# Altium integrated library Capacitors - Ceramic - 0402.IntLib: 4569 symbols (part 93 of 100)
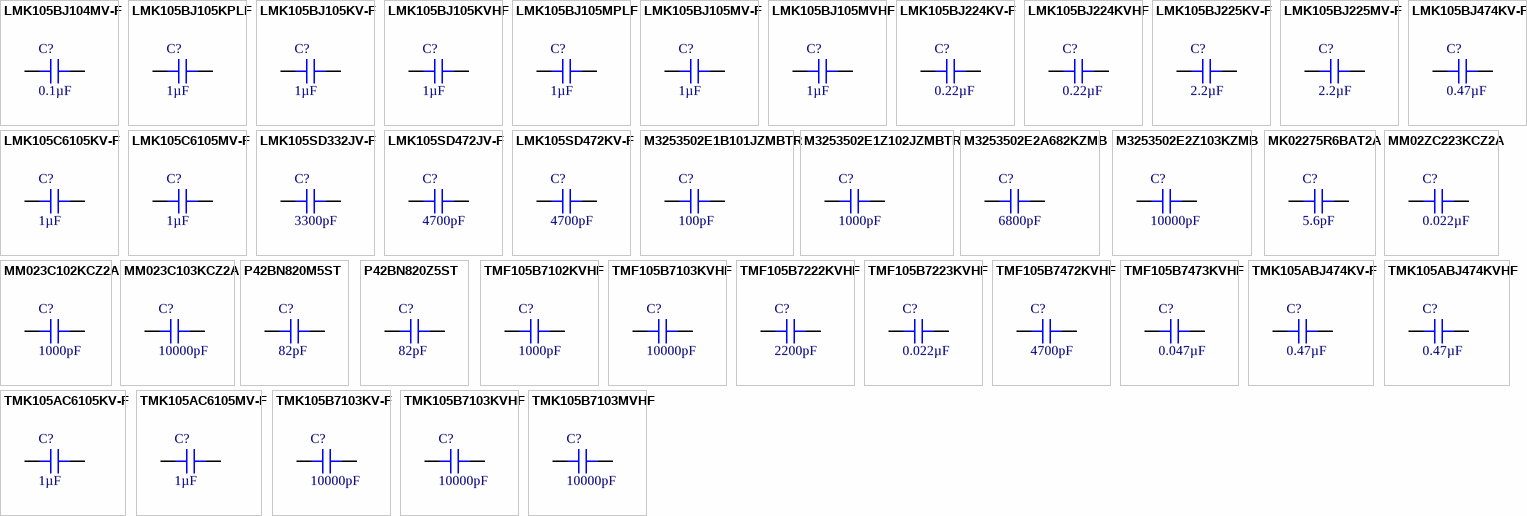
[diagram p206: symbols LMK105BJ104MV-F to TMK105B7103MVHF]

## LMK105BJ224KVHF
designator C?, comment 0.22µF
CAP CER 0.22UF 10V X5R 0402; Part Number: LMK105BJ224KVHF; Manufacturer: Taiyo Yuden; Tolerance: ±10%; Value: 0.22µF; Applications: Automotive; Capacitance: 0.22µF; ComponentLink1Description: Datasheet; ComponentLink1URL: https://www.yuden.co.jp/productdata/catalog/mlcc_all_hq_e.pdf; ComponentLink2Description: DigiKey Link; ComponentLink2URL: http://digikey.com/product-detail/en/taiyo-yuden/LMK105BJ224KVHF/587-3771-1-ND/4811241; Device Package: 0402 (1005 Metric); LastUpdated: 9/2/2020 1:02:11 AM; Lifecycle Status: Active; Minimum Order: 1; Mounting Type: Surface Mount, MLCC; Operating Temperature: -55°C ~ 85°C; Package / Case: 0402 (1005 Metric); Packaging: TapeAndReel; PartId: 7890; Part Status: Active; Price: 0.02; Ratings: AEC-Q200; Series: M; Size / Dimension: 0.039" L x 0.020" W (1.00mm x 0.50mm); Supplier 1: DigiKey; Supplier Part Number 1: 587-3771-1-ND; Temperature Coefficient: X5R; Thickness (Max): 0.022" (0.55mm); Voltage - Rated: 10V
footprint CAP 0402_1005
pins: 1, 2

## LMK105BJ225KV-F
designator C?, comment 2.2µF
CAP CER 2.2UF 10V X5R 0402; Part Number: LMK105BJ225KV-F; Manufacturer: Taiyo Yuden; Tolerance: ±10%; Value: 2.2µF; Applications: SMPS Filtering; Capacitance: 2.2µF; ComponentLink1Description: Datasheet; ComponentLink1URL: https://ds.yuden.co.jp/TYCOMPAS/ut/detail?pn=LMK105BJ225KV-F &u=M; ComponentLink2Description: DigiKey Link; ComponentLink2URL: http://digikey.com/product-detail/en/taiyo-yuden/LMK105BJ225KV-F/587-6016-1-ND/8040679; Device Package: 0402 (1005 Metric); LastUpdated: 9/2/2020 1:02:22 AM; Lifecycle Status: Active; Minimum Order: 1; Mounting Type: Surface Mount, MLCC; Operating Temperature: -55°C ~ 85°C; Package / Case: 0402 (1005 Metric); Packaging: TapeAndReel; PartId: 2706; Part Status: Active; Price: 0.01; Series: M; Size / Dimension: 0.039" L x 0.020" W (1.00mm x 0.50mm); Supplier 1: DigiKey; Supplier Part Number 1: 587-6016-1-ND; Temperature Coefficient: X5R; Thickness (Max): 0.026" (0.65mm); Voltage - Rated: 10V
footprint CAP 0402_1005
pins: 1, 2

## LMK105BJ225MV-F
designator C?, comment 2.2µF
CAP CER 2.2UF 10V X5R 0402; Part Number: LMK105BJ225MV-F; Manufacturer: Taiyo Yuden; Tolerance: ±20%; Value: 2.2µF; Applications: General Purpose; Capacitance: 2.2µF; ComponentLink1Description: Datasheet; ComponentLink1URL: https://www.yuden.co.jp/productdata/catalog/mlcc01_e.pdf; ComponentLink2Description: DigiKey Link; ComponentLink2URL: http://digikey.com/product-detail/en/taiyo-yuden/LMK105BJ225MV-F/587-3153-1-ND/2774767; Device Package: 0402 (1005 Metric); LastUpdated: 9/2/2020 1:02:21 AM; Lifecycle Status: Active; Minimum Order: 1; Mounting Type: Surface Mount, MLCC; Operating Temperature: -55°C ~ 85°C; Package / Case: 0402 (1005 Metric); Packaging: TapeAndReel; PartId: 3142; Part Status: Active; Price: 0.01; Series: M; Size / Dimension: 0.039" L x 0.020" W (1.00mm x 0.50mm); Supplier 1: DigiKey; Supplier Part Number 1: 587-3153-1-ND; Temperature Coefficient: X5R; Thickness (Max): 0.022" (0.55mm); Voltage - Rated: 10V
footprint CAP 0402_1005
pins: 1, 2

## LMK105BJ474KV-F
designator C?, comment 0.47µF
CAP CER 0.47UF 10V X5R 0402; Part Number: LMK105BJ474KV-F; Manufacturer: Taiyo Yuden; Tolerance: ±10%; Value: 0.47µF; Applications: General Purpose; Capacitance: 0.47µF; ComponentLink1Description: Datasheet; ComponentLink1URL: https://www.yuden.co.jp/productdata/catalog/mlcc01_e.pdf; ComponentLink2Description: DigiKey Link; ComponentLink2URL: http://digikey.com/product-detail/en/taiyo-yuden/LMK105BJ474KV-F/587-1455-1-ND/1004086; Device Package: 0402 (1005 Metric); LastUpdated: 9/2/2020 1:02:21 AM; Lifecycle Status: Active; Minimum Order: 1; Mounting Type: Surface Mount, MLCC; Operating Temperature: -55°C ~ 85°C; Package / Case: 0402 (1005 Metric); Packaging: TapeAndReel; PartId: 3170; Part Status: Active; Price: 0.02; Series: M; Size / Dimension: 0.039" L x 0.020" W (1.00mm x 0.50mm); Supplier 1: DigiKey; Supplier Part Number 1: 587-1455-1-ND; Temperature Coefficient: X5R; Thickness (Max): 0.022" (0.55mm); Voltage - Rated: 10V
footprint CAP 0402_1005
pins: 1, 2

## LMK105C6105KV-F
designator C?, comment 1µF
CAP CER 1UF 10V X6S 0402; Part Number: LMK105C6105KV-F; Manufacturer: Taiyo Yuden; Tolerance: ±10%; Value: 1µF; Applications: General Purpose; Capacitance: 1µF; ComponentLink1Description: Datasheet; ComponentLink1URL: https://www.yuden.co.jp/productdata/catalog/mlcc01_e.pdf; ComponentLink2Description: DigiKey Link; ComponentLink2URL: http://digikey.com/product-detail/en/taiyo-yuden/LMK105C6105KV-F/587-3409-1-ND/4157203; Device Package: 0402 (1005 Metric); LastUpdated: 9/2/2020 1:02:23 AM; Lifecycle Status: Active; Minimum Order: 1; Mounting Type: Surface Mount, MLCC; Operating Temperature: -55°C ~ 105°C; Package / Case: 0402 (1005 Metric); Packaging: TapeAndReel; PartId: 2215; Part Status: Active; Price: 0.02; Series: M; Size / Dimension: 0.039" L x 0.020" W (1.00mm x 0.50mm); Supplier 1: DigiKey; Supplier Part Number 1: 587-3409-1-ND; Temperature Coefficient: X6S; Thickness (Max): 0.022" (0.55mm); Voltage - Rated: 10V
footprint CAP 0402_1005
pins: 1, 2

## LMK105C6105MV-F
designator C?, comment 1µF
CAP CER 1UF 10V X6S 0402; Part Number: LMK105C6105MV-F; Manufacturer: Taiyo Yuden; Tolerance: ±20%; Value: 1µF; Applications: SMPS Filtering; Capacitance: 1µF; ComponentLink1Description: Datasheet; ComponentLink1URL: https://ds.yuden.co.jp/TYCOMPAS/ut/detail?pn=LMK105C6105MV-F &u=M; ComponentLink2Description: DigiKey Link; ComponentLink2URL: http://digikey.com/product-detail/en/taiyo-yuden/LMK105C6105MV-F/587-5462-1-ND/7067138; Device Package: 0402 (1005 Metric); LastUpdated: 9/2/2020 1:02:07 AM; Lifecycle Status: Active; Minimum Order: 1; Mounting Type: Surface Mount, MLCC; Operating Temperature: -55°C ~ 105°C; Package / Case: 0402 (1005 Metric); Packaging: TapeAndReel; PartId: 9523; Part Status: Active; Price: 0.01; Series: M; Size / Dimension: 0.039" L x 0.020" W (1.00mm x 0.50mm); Supplier 1: DigiKey; Supplier Part Number 1: 587-5462-1-ND; Temperature Coefficient: X6S; Thickness (Max): 0.022" (0.55mm); Voltage - Rated: 10V
footprint CAP 0402_1005
pins: 1, 2

## LMK105SD332JV-F
designator C?, comment 3300pF
CAP CER 3300PF 10V 0402; Part Number: LMK105SD332JV-F; Manufacturer: Taiyo Yuden; Tolerance: ±5%; Value: 3300pF; Applications: RF, Microwave, High Frequency; Capacitance: 3300pF; ComponentLink1Description: Datasheet; ComponentLink1URL: http://www.yuden.co.jp/productdata/catalog/mlcc07_e.pdf; ComponentLink2Description: DigiKey Link; ComponentLink2URL: http://digikey.com/product-detail/en/taiyo-yuden/LMK105SD332JV-F/587-1063-1-ND/930840; Device Package: 0402 (1005 Metric); Features: Low Distortion; LastUpdated: 9/2/2020 1:01:48 AM; Lifecycle Status: Active; Minimum Order: 1; Mounting Type: Surface Mount, MLCC; Operating Temperature: -55°C ~ 125°C; Package / Case: 0402 (1005 Metric); Packaging: TapeAndReel; PartId: 12273; Part Status: Active; Price: 0.08; Series: CFCAP™; Size / Dimension: 0.039" L x 0.020" W (1.00mm x 0.50mm); Supplier 1: DigiKey; Supplier Part Number 1: 587-1063-1-ND; Thickness (Max): 0.022" (0.55mm); Voltage - Rated: 10V
footprint CAP 0402_1005
pins: 1, 2

## LMK105SD472JV-F
designator C?, comment 4700pF
CAP CER 4700PF 10V 0402; Part Number: LMK105SD472JV-F; Manufacturer: Taiyo Yuden; Tolerance: ±5%; Value: 4700pF; Applications: RF, Microwave, High Frequency; Capacitance: 4700pF; ComponentLink1Description: Datasheet; ComponentLink1URL: http://www.yuden.co.jp/productdata/catalog/mlcc07_e.pdf; ComponentLink2Description: DigiKey Link; ComponentLink2URL: http://digikey.com/product-detail/en/taiyo-yuden/LMK105SD472JV-F/587-1067-1-ND/930844; Device Package: 0402 (1005 Metric); Features: Low Distortion; LastUpdated: 9/2/2020 1:01:47 AM; Lifecycle Status: Active; Minimum Order: 1; Mounting Type: Surface Mount, MLCC; Operating Temperature: -55°C ~ 125°C; Package / Case: 0402 (1005 Metric); Packaging: TapeAndReel; PartId: 12296; Part Status: Active; Price: 0.07; Series: CFCAP™; Size / Dimension: 0.039" L x 0.020" W (1.00mm x 0.50mm); Supplier 1: DigiKey; Supplier Part Number 1: 587-1067-1-ND; Thickness (Max): 0.022" (0.55mm); Voltage - Rated: 10V
footprint CAP 0402_1005
pins: 1, 2

## LMK105SD472KV-F
designator C?, comment 4700pF
CAP CER 4700PF 10V 0402; Part Number: LMK105SD472KV-F; Manufacturer: Taiyo Yuden; Tolerance: ±10%; Value: 4700pF; Applications: General Purpose; Capacitance: 4700pF; ComponentLink1Description: Datasheet; ComponentLink1URL: http://www.yuden.co.jp/productdata/catalog/mlcc07_e.pdf; ComponentLink2Description: DigiKey Link; ComponentLink2URL: http://digikey.com/product-detail/en/taiyo-yuden/LMK105SD472KV-F/587-1068-1-ND/930845; Device Package: 0402 (1005 Metric); Features: Low Distortion; LastUpdated: 9/2/2020 1:01:08 AM; Lifecycle Status: Active; Minimum Order: 1; Mounting Type: Surface Mount, MLCC; Operating Temperature: -55°C ~ 125°C; Package / Case: 0402 (1005 Metric); Packaging: TapeAndReel; PartId: 26156; Part Status: Active; Price: 0.07; Series: CFCAP™; Supplier 1: DigiKey; Supplier Part Number 1: 587-1068-1-ND; Voltage - Rated: 10V
footprint CAP 0402_1005
pins: 1, 2

## M3253502E1B101JZMBTR
designator C?, comment 100pF
CAP CER 100PF 100V C0G/NP0 0402; Part Number: M3253502E1B101JZMBTR; Manufacturer: KEMET; Temperature Coefficient: C0G, NP0; Tolerance: ±5%; Value: 100pF; Applications: High Reliability; Capacitance: 100pF; ComponentLink1Description: Datasheet; ComponentLink1URL: https://api.kemet.com/component-edge/download/specsheet/C0402K101J1EML7189.pdf; ComponentLink2Description: DigiKey Link; ComponentLink2URL: http://digikey.com/product-detail/en/kemet/M3253502E1B101JZMBTR/1001-2499-1-ND/8567146; Device Package: 0402 (1005 Metric); Failure Rate: M (1%); Features: Low ESL; LastUpdated: 9/2/2020 1:02:16 AM; Lifecycle Status: Active; Minimum Order: 1; Mounting Type: Surface Mount, MLCC; Operating Temperature: -55°C ~ 125°C; Package / Case: 0402 (1005 Metric); Packaging: TapeAndReel; PartId: 5495; Part Status: Active; Price: 1.54; Series: Military, MIL-PRF-32535; Size / Dimension: 0.040" L x 0.020" W (1.02mm x 0.51mm); Supplier 1: DigiKey; Supplier Part Number 1: 1001-2499-1-ND; Thickness (Max): 0.024" (0.61mm); Voltage - Rated: 100V
footprint CAP 0402_1005
pins: 1, 2

## M3253502E1Z102JZMBTR
designator C?, comment 1000pF
CAP CER 1000PF 25V C0G/NP0 0402; Part Number: M3253502E1Z102JZMBTR; Manufacturer: KEMET; Temperature Coefficient: C0G, NP0; Tolerance: ±5%; Applications: High Reliability; Capacitance: 1000pF; ComponentLink1Description: Datasheet; ComponentLink1URL: https://api.kemet.com/component-edge/download/specsheet/C0402K102J3EML7189.pdf; ComponentLink2Description: DigiKey Link; ComponentLink2URL: http://digikey.com/product-detail/en/kemet/M3253502E1Z102JZMBTR/1001-2500-1-ND/8567147; Device Package: 0402 (1005 Metric); Failure Rate: M (1%); Features: Low ESL; LastUpdated: 9/2/2020 1:02:10 AM; Lifecycle Status: Active; Minimum Order: 1; Mounting Type: Surface Mount, MLCC; Operating Temperature: -55°C ~ 125°C; Package / Case: 0402 (1005 Metric); Packaging: TapeAndReel; PartId: 8358; Part Status: Active; Price: 2.60; Series: Military, MIL-PRF-32535; Size / Dimension: 0.040" L x 0.020" W (1.02mm x 0.51mm); Supplier 1: DigiKey; Supplier Part Number 1: 1001-2500-1-ND; Thickness (Max): 0.024" (0.61mm); Voltage - Rated: 25V; Value: 1000pF
footprint CAP 0402_1005
pins: 1, 2

## M3253502E2A682KZMB
designator C?, comment 6800pF
CAP CER 6800PF 50V X7R 0402; Part Number: M3253502E2A682KZMB; Manufacturer: KEMET; Tolerance: ±10%; Value: 6800pF; Applications: High Reliability; Capacitance: 6800pF; ComponentLink1Description: Datasheet; ComponentLink1URL: https://api.kemet.com/component-edge/download/datasheet/M3253502E2A682KZMB.pdf; ComponentLink2Description: DigiKey Link; ComponentLink2URL: http://digikey.com/product-detail/en/kemet/M3253502E2A682KZMB/1001-2513-1-ND/9566195; Device Package: 0402 (1005 Metric); LastUpdated: 9/2/2020 1:02:16 AM; Lifecycle Status: Active; Minimum Order: 1; Mounting Type: Surface Mount, MLCC; Operating Temperature: -55°C ~ 125°C; Package / Case: 0402 (1005 Metric); Packaging: TapeAndReel; PartId: 5499; Part Status: Active; Price: 1.79; Series: Military, MIL-PRF-32535; Size / Dimension: 0.040" L x 0.020" W (1.02mm x 0.51mm); Supplier 1: DigiKey; Supplier Part Number 1: 1001-2513-1-ND; Temperature Coefficient: X7R; Thickness (Max): 0.024" (0.61mm); Voltage - Rated: 50V
footprint CAP 0402_1005
pins: 1, 2

## M3253502E2Z103KZMB
designator C?, comment 10000pF
CAP CER 10000PF 25V X7R 0402; Part Number: M3253502E2Z103KZMB; Manufacturer: KEMET; Tolerance: ±10%; Value: 10000pF; Applications: High Reliability; Capacitance: 10000pF; ComponentLink1Description: Datasheet; ComponentLink1URL: https://api.kemet.com/component-edge/download/datasheet/M3253502E2Z103KZMB.pdf; ComponentLink2Description: DigiKey Link; ComponentLink2URL: http://digikey.com/product-detail/en/kemet/M3253502E2Z103KZMB/1001-2514-1-ND/9566196; Device Package: 0402 (1005 Metric); LastUpdated: 9/2/2020 1:02:16 AM; Lifecycle Status: Active; Minimum Order: 1; Mounting Type: Surface Mount, MLCC; Operating Temperature: -55°C ~ 125°C; Package / Case: 0402 (1005 Metric); Packaging: TapeAndReel; PartId: 5503; Part Status: Active; Price: 1.91; Series: Military, MIL-PRF-32535; Size / Dimension: 0.040" L x 0.020" W (1.02mm x 0.51mm); Supplier 1: DigiKey; Supplier Part Number 1: 1001-2514-1-ND; Temperature Coefficient: X7R; Thickness (Max): 0.024" (0.61mm); Voltage - Rated: 25V
footprint CAP 0402_1005
pins: 1, 2

## MK02275R6BAT2A
designator C?, comment 5.6pF
CAP CER 5.6PF 200V C0G/NP0 0402; Part Number: MK02275R6BAT2A; Manufacturer: AVX Corporation; Temperature Coefficient: C0G, NP0; Tolerance: ±0.1pF; Value: 5.6pF; Applications: General Purpose; Capacitance: 5.6pF; ComponentLink1Description: Datasheet; ComponentLink1URL: http://datasheets.avx.com/MK-Series.pdf; ComponentLink2Description: DigiKey Link; ComponentLink2URL: http://digikey.com/product-detail/en/avx-corporation/MK02275R6BAT2A/478-6288-1-ND/2506272; Device Package: 0402 (1005 Metric); Features: Ultra Low ESR; LastUpdated: 9/2/2020 1:02:11 AM; Lifecycle Status: Active; Minimum Order: 1; Mounting Type: Surface Mount, MLCC; Operating Temperature: -55°C ~ 125°C; Package / Case: 0402 (1005 Metric); Packaging: TapeAndReel; PartId: 7967; Part Status: Active; Price: 0.11; Series: MK; Size / Dimension: 0.039" L x 0.020" W (1.00mm x 0.50mm); Supplier 1: DigiKey; Supplier Part Number 1: 478-6288-1-ND; Thickness (Max): 0.024" (0.60mm); Voltage - Rated: 200V
footprint CAP 0402_1005
pins: 1, 2

## MM02ZC223KCZ2A
designator C?, comment 0.022µF
CAP CER 0.022UF 10V X7R 0402; Part Number: MM02ZC223KCZ2A; Manufacturer: AVX Corporation; Tolerance: ±10%; Value: 0.022µF; Applications: Medical, Non-Critical; Capacitance: 0.022µF; ComponentLink1Description: Datasheet; ComponentLink1URL: http://datasheets.avx.com/AVX-MM.pdf; ComponentLink2Description: DigiKey Link; ComponentLink2URL: http://digikey.com/product-detail/en/avx-corporation/MM02ZC223KCZ2A/478-10631-1-ND/7344892; Device Package: 0402 (1005 Metric); LastUpdated: 9/2/2020 1:02:04 AM; Lifecycle Status: Active; Minimum Order: 1; Mounting Type: Surface Mount, MLCC; Operating Temperature: -55°C ~ 125°C; Package / Case: 0402 (1005 Metric); Packaging: TapeAndReel; PartId: 10993; Part Status: Active; Price: 0.25; Series: MM; Size / Dimension: 0.039" L x 0.020" W (1.00mm x 0.50mm); Supplier 1: DigiKey; Supplier Part Number 1: 478-10631-1-ND; Temperature Coefficient: X7R; Thickness (Max): 0.029" (0.74mm); Voltage - Rated: 10V
footprint CAP 0402_1005
pins: 1, 2

## MM023C102KCZ2A
designator C?, comment 1000pF
CAP CER 1000PF 25V X7R 0402; Part Number: MM023C102KCZ2A; Manufacturer: AVX Corporation; Tolerance: ±10%; Value: 1000pF; Applications: Medical, Non-Critical; Capacitance: 1000pF; ComponentLink1Description: Datasheet; ComponentLink1URL: http://datasheets.avx.com/AVX-MM.pdf; ComponentLink2Description: DigiKey Link; ComponentLink2URL: http://digikey.com/product-detail/en/avx-corporation/MM023C102KCZ2A/478-10629-1-ND/7344890; Device Package: 0402 (1005 Metric); LastUpdated: 9/2/2020 1:02:03 AM; Lifecycle Status: Active; Minimum Order: 1; Mounting Type: Surface Mount, MLCC; Operating Temperature: -55°C ~ 125°C; Package / Case: 0402 (1005 Metric); Packaging: TapeAndReel; PartId: 11261; Part Status: Active; Price: 0.23; Series: MM; Size / Dimension: 0.039" L x 0.020" W (1.00mm x 0.50mm); Supplier 1: DigiKey; Supplier Part Number 1: 478-10629-1-ND; Temperature Coefficient: X7R; Thickness (Max): 0.029" (0.74mm); Voltage - Rated: 25V
footprint CAP 0402_1005
pins: 1, 2

## MM023C103KCZ2A
designator C?, comment 10000pF
CAP CER 10000PF 25V X7R 0402; Part Number: MM023C103KCZ2A; Manufacturer: AVX Corporation; Tolerance: ±10%; Value: 10000pF; Applications: Medical, Non-Critical; Capacitance: 10000pF; ComponentLink1Description: Datasheet; ComponentLink1URL: http://datasheets.avx.com/AVX-MM.pdf; ComponentLink2Description: DigiKey Link; ComponentLink2URL: http://digikey.com/product-detail/en/avx-corporation/MM023C103KCZ2A/478-10632-1-ND/7344893; Device Package: 0402 (1005 Metric); LastUpdated: 9/2/2020 1:02:17 AM; Lifecycle Status: Active; Minimum Order: 1; Mounting Type: Surface Mount, MLCC; Operating Temperature: -55°C ~ 125°C; Package / Case: 0402 (1005 Metric); Packaging: TapeAndReel; PartId: 5002; Part Status: Active; Price: 0.27; Series: MM; Size / Dimension: 0.039" L x 0.020" W (1.00mm x 0.50mm); Supplier 1: DigiKey; Supplier Part Number 1: 478-10632-1-ND; Temperature Coefficient: X7R; Thickness (Max): 0.029" (0.74mm); Voltage - Rated: 25V
footprint CAP 0402_1005
pins: 1, 2

## P42BN820M5ST
designator C?, comment 82pF
CAP CER 82PF 50V BN 0402 EPOXY; Part Number: P42BN820M5ST; Manufacturer: Knowles Dielectric Labs; Tolerance: ±20%; Value: 82pF; Applications: General Purpose; Capacitance: 82pF; ComponentLink1Description: Datasheet; ComponentLink1URL: //media.digikey.com/pdf/Data%20Sheets/Knowles%20Dielectric%20Labs%20PDFs/P21_42_62_Milli-Cap%C2%AE_DS.pdf; ComponentLink2Description: DigiKey Link; ComponentLink2URL: http://digikey.com/product-detail/en/knowles-dielectric-labs/P42BN820M5ST/1761-1058-1-ND/7596233; Device Package: 0402 (1005 Metric); Features: High Q, Low Loss, Low ESL, Epoxy Mountable; LastUpdated: 9/2/2020 1:02:02 AM; Lifecycle Status: Active; Minimum Order: 1; Mounting Type: Surface Mount, MLCC, Epoxy; Operating Temperature: -55°C ~ 125°C; Package / Case: 0402 (1005 Metric); Packaging: TapeAndReel; PartId: 11590; Part Status: Active; Price: 2.90; Series: Milli‐Cap®; Size / Dimension: 0.042" L x 0.022" W (1.07mm x 0.56mm); Supplier 1: DigiKey; Supplier Part Number 1: 1761-1058-1-ND; Temperature Coefficient: BN; Thickness (Max): 0.022" (0.56mm); Voltage - Rated: 50V
footprint CAP 0402_1005
pins: 1, 2

## P42BN820Z5ST
designator C?, comment 82pF
CAP CER 82PF 50V BN 0402 EPOXY; Part Number: P42BN820Z5ST; Manufacturer: Knowles Dielectric Labs; Tolerance: -20%, +80%; Value: 82pF; Applications: General Purpose; Capacitance: 82pF; ComponentLink1Description: Datasheet; ComponentLink1URL: //media.digikey.com/pdf/Data%20Sheets/B&B%20Smartworx%20PDFs/BroadbandBlocksMilliCaps.pdf; ComponentLink2Description: DigiKey Link; ComponentLink2URL: http://digikey.com/product-detail/en/knowles-dielectric-labs/P42BN820Z5ST/1761-1088-1-ND/7798400; Device Package: 0402 (1005 Metric); Features: High Q, Low Loss, Low ESL, Epoxy Mountable; LastUpdated: 9/2/2020 1:02:18 AM; Lifecycle Status: Active; Minimum Order: 1; Mounting Type: Surface Mount, MLCC, Epoxy; Operating Temperature: -55°C ~ 125°C; Package / Case: 0402 (1005 Metric); Packaging: TapeAndReel; PartId: 4318; Part Status: Active; Price: 4.88; Series: Milli‐Cap®; Size / Dimension: 0.042" L x 0.022" W (1.07mm x 0.56mm); Supplier 1: DigiKey; Supplier Part Number 1: 1761-1088-1-ND; Temperature Coefficient: BN; Thickness (Max): 0.022" (0.56mm); Voltage - Rated: 50V
footprint CAP 0402_1005
pins: 1, 2

## TMF105B7102KVHF
designator C?, comment 1000pF
CAP, MLCC, 0402/1005, 25V, X7R,; Part Number: TMF105B7102KVHF; Manufacturer: Taiyo Yuden; Tolerance: ±10%; Value: 1000pF; Applications: Automotive, SMPS Filtering; Capacitance: 1000pF; ComponentLink1Description: Datasheet; ComponentLink1URL: https://ds.yuden.co.jp/TYCOMPAS/ut/detail?pn=TMF105B7102KVHF&u=M; ComponentLink2Description: DigiKey Link; ComponentLink2URL: http://digikey.com/product-detail/en/taiyo-yuden/TMF105B7102KVHF/587-6571-1-ND/10379264; Device Package: 0402 (1005 Metric); LastUpdated: 9/2/2020 1:02:08 AM; Lifecycle Status: Active; Minimum Order: 1; Mounting Type: Surface Mount, MLCC; Operating Temperature: -55°C ~ 125°C; Package / Case: 0402 (1005 Metric); Packaging: TapeAndReel; PartId: 9111; Part Status: Active; Price: 0.01; Ratings: AEC-Q200; Series: M; Size / Dimension: 0.039" L x 0.020" W (1.00mm x 0.50mm); Supplier 1: DigiKey; Supplier Part Number 1: 587-6571-1-ND; Temperature Coefficient: X7R; Thickness (Max): 0.022" (0.55mm); Voltage - Rated: 25V
footprint CAP 0402_1005
pins: 1, 2

## TMF105B7103KVHF
designator C?, comment 10000pF
CAP, MLCC, 0402/1005, 25V, X7R,; Part Number: TMF105B7103KVHF; Manufacturer: Taiyo Yuden; Tolerance: ±10%; Value: 10000pF; Applications: Automotive, SMPS Filtering; Capacitance: 10000pF; ComponentLink1Description: Datasheet; ComponentLink1URL: https://ds.yuden.co.jp/TYCOMPAS/ut/detail?pn=TMF105B7103KVHF&u=M; ComponentLink2Description: DigiKey Link; ComponentLink2URL: http://digikey.com/product-detail/en/taiyo-yuden/TMF105B7103KVHF/587-6585-1-ND/10379278; Device Package: 0402 (1005 Metric); LastUpdated: 9/2/2020 1:02:08 AM; Lifecycle Status: Active; Minimum Order: 1; Mounting Type: Surface Mount, MLCC; Operating Temperature: -55°C ~ 125°C; Package / Case: 0402 (1005 Metric); Packaging: TapeAndReel; PartId: 9146; Part Status: Active; Price: 0.01; Ratings: AEC-Q200; Series: M; Size / Dimension: 0.039" L x 0.020" W (1.00mm x 0.50mm); Supplier 1: DigiKey; Supplier Part Number 1: 587-6585-1-ND; Temperature Coefficient: X7R; Thickness (Max): 0.022" (0.55mm); Voltage - Rated: 25V
footprint CAP 0402_1005
pins: 1, 2

## TMF105B7222KVHF
designator C?, comment 2200pF
CAP, MLCC, 0402/1005, 25V, X7R,; Part Number: TMF105B7222KVHF; Manufacturer: Taiyo Yuden; Tolerance: ±10%; Value: 2200pF; Applications: Automotive, SMPS Filtering; Capacitance: 2200pF; ComponentLink1Description: Datasheet; ComponentLink1URL: https://ds.yuden.co.jp/TYCOMPAS/ut/detail?pn=TMF105B7222KVHF&u=M; ComponentLink2Description: DigiKey Link; ComponentLink2URL: http://digikey.com/product-detail/en/taiyo-yuden/TMF105B7222KVHF/587-6586-1-ND/10379279; Device Package: 0402 (1005 Metric); LastUpdated: 9/2/2020 1:02:08 AM; Lifecycle Status: Active; Minimum Order: 1; Mounting Type: Surface Mount, MLCC; Operating Temperature: -55°C ~ 125°C; Package / Case: 0402 (1005 Metric); Packaging: TapeAndReel; PartId: 9148; Part Status: Active; Price: 0.01; Ratings: AEC-Q200; Series: M; Size / Dimension: 0.039" L x 0.020" W (1.00mm x 0.50mm); Supplier 1: DigiKey; Supplier Part Number 1: 587-6586-1-ND; Temperature Coefficient: X7R; Thickness (Max): 0.022" (0.55mm); Voltage - Rated: 25V
footprint CAP 0402_1005
pins: 1, 2

## TMF105B7223KVHF
designator C?, comment 0.022µF
CAP, MLCC, 0402/1005, 25V, X7R,; Part Number: TMF105B7223KVHF; Manufacturer: Taiyo Yuden; Tolerance: ±10%; Value: 0.022µF; Applications: Automotive, SMPS Filtering; Capacitance: 0.022µF; ComponentLink1Description: Datasheet; ComponentLink1URL: https://ds.yuden.co.jp/TYCOMPAS/ut/detail?pn=TMF105B7223KVHF&u=M; ComponentLink2Description: DigiKey Link; ComponentLink2URL: http://digikey.com/product-detail/en/taiyo-yuden/TMF105B7223KVHF/587-6569-1-ND/10379262; Device Package: 0402 (1005 Metric); LastUpdated: 9/2/2020 1:02:08 AM; Lifecycle Status: Active; Minimum Order: 1; Mounting Type: Surface Mount, MLCC; Operating Temperature: -55°C ~ 125°C; Package / Case: 0402 (1005 Metric); Packaging: TapeAndReel; PartId: 9105; Part Status: Active; Price: 0.01; Ratings: AEC-Q200; Series: M; Size / Dimension: 0.039" L x 0.020" W (1.00mm x 0.50mm); Supplier 1: DigiKey; Supplier Part Number 1: 587-6569-1-ND; Temperature Coefficient: X7R; Thickness (Max): 0.022" (0.55mm); Voltage - Rated: 25V
footprint CAP 0402_1005
pins: 1, 2

## TMF105B7472KVHF
designator C?, comment 4700pF
CAP, MLCC, 0402/1005, 25V, X7R,; Part Number: TMF105B7472KVHF; Manufacturer: Taiyo Yuden; Tolerance: ±10%; Value: 4700pF; Applications: Automotive, SMPS Filtering; Capacitance: 4700pF; ComponentLink1Description: Datasheet; ComponentLink1URL: https://ds.yuden.co.jp/TYCOMPAS/ut/detail?pn=TMF105B7472KVHF&u=M; ComponentLink2Description: DigiKey Link; ComponentLink2URL: http://digikey.com/product-detail/en/taiyo-yuden/TMF105B7472KVHF/587-6570-1-ND/10379263; Device Package: 0402 (1005 Metric); LastUpdated: 9/2/2020 1:02:08 AM; Lifecycle Status: Active; Minimum Order: 1; Mounting Type: Surface Mount, MLCC; Operating Temperature: -55°C ~ 125°C; Package / Case: 0402 (1005 Metric); Packaging: TapeAndReel; PartId: 9108; Part Status: Active; Price: 0.01; Ratings: AEC-Q200; Series: M; Size / Dimension: 0.039" L x 0.020" W (1.00mm x 0.50mm); Supplier 1: DigiKey; Supplier Part Number 1: 587-6570-1-ND; Temperature Coefficient: X7R; Thickness (Max): 0.022" (0.55mm); Voltage - Rated: 25V
footprint CAP 0402_1005
pins: 1, 2

## TMF105B7473KVHF
designator C?, comment 0.047µF
CAP, MLCC, 0402/1005, 25V, X7R,; Part Number: TMF105B7473KVHF; Manufacturer: Taiyo Yuden; Tolerance: ±10%; Value: 0.047µF; Applications: Automotive, SMPS Filtering; Capacitance: 0.047µF; ComponentLink1Description: Datasheet; ComponentLink1URL: https://ds.yuden.co.jp/TYCOMPAS/ut/detail?pn=TMF105B7473KVHF&u=M; ComponentLink2Description: DigiKey Link; ComponentLink2URL: http://digikey.com/product-detail/en/taiyo-yuden/TMF105B7473KVHF/587-6568-1-ND/10379261; Device Package: 0402 (1005 Metric); LastUpdated: 9/2/2020 1:02:08 AM; Lifecycle Status: Active; Minimum Order: 1; Mounting Type: Surface Mount, MLCC; Operating Temperature: -55°C ~ 125°C; Package / Case: 0402 (1005 Metric); Packaging: TapeAndReel; PartId: 9102; Part Status: Active; Price: 0.01; Ratings: AEC-Q200; Series: M; Size / Dimension: 0.039" L x 0.020" W (1.00mm x 0.50mm); Supplier 1: DigiKey; Supplier Part Number 1: 587-6568-1-ND; Temperature Coefficient: X7R; Thickness (Max): 0.022" (0.55mm); Voltage - Rated: 25V
footprint CAP 0402_1005
pins: 1, 2

## TMK105ABJ474KV-F
designator C?, comment 0.47µF
CAP CER 0.47UF 25V X5R 0402; Part Number: TMK105ABJ474KV-F; Manufacturer: Taiyo Yuden; Tolerance: ±10%; Value: 0.47µF; Applications: General Purpose; Capacitance: 0.47µF; ComponentLink1Description: Datasheet; ComponentLink1URL: https://www.yuden.co.jp/productdata/catalog/mlcc01_e.pdf; ComponentLink2Description: DigiKey Link; ComponentLink2URL: http://digikey.com/product-detail/en/taiyo-yuden/TMK105ABJ474KV-F/587-5946-1-ND/7675066; Device Package: 0402 (1005 Metric); LastUpdated: 9/2/2020 1:02:17 AM; Lifecycle Status: Active; Minimum Order: 1; Mounting Type: Surface Mount, MLCC; Operating Temperature: -55°C ~ 85°C; Package / Case: 0402 (1005 Metric); Packaging: TapeAndReel; PartId: 5052; Part Status: Active; Price: 0.04; Series: M; Size / Dimension: 0.039" L x 0.020" W (1.00mm x 0.50mm); Supplier 1: DigiKey; Supplier Part Number 1: 587-5946-1-ND; Temperature Coefficient: X5R; Thickness (Max): 0.022" (0.55mm); Voltage - Rated: 25V
footprint CAP 0402_1005
pins: 1, 2

## TMK105ABJ474KVHF
designator C?, comment 0.47µF
CAP CER 0.47UF 25V X5R 0402; Part Number: TMK105ABJ474KVHF; Manufacturer: Taiyo Yuden; Tolerance: ±10%; Value: 0.47µF; Applications: Automotive; Capacitance: 0.47µF; ComponentLink1Description: Datasheet; ComponentLink1URL: https://ds.yuden.co.jp/TYCOMPAS/ut/detail?pn=TMK105ABJ474KVHF &u=M; ComponentLink2Description: DigiKey Link; ComponentLink2URL: http://digikey.com/product-detail/en/taiyo-yuden/TMK105ABJ474KVHF/587-3810-1-ND/4811280; Device Package: 0402 (1005 Metric); LastUpdated: 9/2/2020 1:02:13 AM; Lifecycle Status: Active; Minimum Order: 1; Mounting Type: Surface Mount, MLCC; Operating Temperature: -55°C ~ 85°C; Package / Case: 0402 (1005 Metric); Packaging: TapeAndReel; PartId: 6924; Part Status: Active; Price: 0.03; Ratings: AEC-Q200; Series: M; Size / Dimension: 0.039" L x 0.020" W (1.00mm x 0.50mm); Supplier 1: DigiKey; Supplier Part Number 1: 587-3810-1-ND; Temperature Coefficient: X5R; Thickness (Max): 0.024" (0.60mm); Voltage - Rated: 25V
footprint CAP 0402_1005
pins: 1, 2

## TMK105AC6105KV-F
designator C?, comment 1µF
CAP CER 1UF 25V X6S 0402; Part Number: TMK105AC6105KV-F; Manufacturer: Taiyo Yuden; Tolerance: ±10%; Value: 1µF; Applications: SMPS Filtering; Capacitance: 1µF; ComponentLink1Description: Datasheet; ComponentLink1URL: https://www.yuden.co.jp/productdata/catalog/mlcc01_e.pdf; ComponentLink2Description: DigiKey Link; ComponentLink2URL: http://digikey.com/product-detail/en/taiyo-yuden/TMK105AC6105KV-F/587-5054-1-ND/6563897; Device Package: 0402 (1005 Metric); LastUpdated: 9/2/2020 1:01:28 AM; Lifecycle Status: Active; Minimum Order: 1; Mounting Type: Surface Mount, MLCC; Operating Temperature: -55°C ~ 105°C; Package / Case: 0402 (1005 Metric); Packaging: TapeAndReel; PartId: 12939; Part Status: Active; Price: 0.05; Series: M; Size / Dimension: 0.039" L x 0.020" W (1.00mm x 0.50mm); Supplier 1: DigiKey; Supplier Part Number 1: 587-5054-1-ND; Temperature Coefficient: X6S; Thickness (Max): 0.024" (0.60mm); Voltage - Rated: 25V
footprint CAP 0402_1005
pins: 1, 2

## TMK105AC6105MV-F
designator C?, comment 1µF
CAP CER 1UF 25V X6S 0402; Part Number: TMK105AC6105MV-F; Manufacturer: Taiyo Yuden; Tolerance: ±20%; Value: 1µF; Applications: SMPS Filtering; Capacitance: 1µF; ComponentLink1Description: Datasheet; ComponentLink1URL: https://www.yuden.co.jp/productdata/catalog/mlcc01_e.pdf; ComponentLink2Description: DigiKey Link; ComponentLink2URL: http://digikey.com/product-detail/en/taiyo-yuden/TMK105AC6105MV-F/587-5055-1-ND/6563898; Device Package: 0402 (1005 Metric); LastUpdated: 9/2/2020 1:02:06 AM; Lifecycle Status: Active; Minimum Order: 1; Mounting Type: Surface Mount, MLCC; Operating Temperature: -55°C ~ 105°C; Package / Case: 0402 (1005 Metric); Packaging: TapeAndReel; PartId: 9939; Part Status: Active; Price: 0.05; Series: M; Size / Dimension: 0.039" L x 0.020" W (1.00mm x 0.50mm); Supplier 1: DigiKey; Supplier Part Number 1: 587-5055-1-ND; Temperature Coefficient: X6S; Thickness (Max): 0.024" (0.60mm); Voltage - Rated: 25V
footprint CAP 0402_1005
pins: 1, 2

## TMK105B7103KV-F
designator C?, comment 10000pF
CAP CER 10000PF 25V X7R 0402; Part Number: TMK105B7103KV-F; Manufacturer: Taiyo Yuden; Tolerance: ±10%; Value: 10000pF; Applications: General Purpose; Capacitance: 10000pF; ComponentLink1Description: Datasheet; ComponentLink1URL: https://ds.yuden.co.jp/TYCOMPAS/ut/detail?pn=TMK105B7103KV-F  &u=M; ComponentLink2Description: DigiKey Link; ComponentLink2URL: http://digikey.com/product-detail/en/taiyo-yuden/TMK105B7103KV-F/587-1223-1-ND/931000; Device Package: 0402 (1005 Metric); LastUpdated: 9/2/2020 1:02:02 AM; Lifecycle Status: Active; Minimum Order: 1; Mounting Type: Surface Mount, MLCC; Operating Temperature: -55°C ~ 125°C; Package / Case: 0402 (1005 Metric); Packaging: CutTape; PartId: 11597; Part Status: Active; Price: 0.10; Series: M; Size / Dimension: 0.039" L x 0.020" W (1.00mm x 0.50mm); Supplier 1: DigiKey; Supplier Part Number 1: 587-1223-1-ND; Temperature Coefficient: X7R; Thickness (Max): 0.022" (0.55mm); Voltage - Rated: 25V
footprint CAP 0402_1005
pins: 1, 2

## TMK105B7103KVHF
designator C?, comment 10000pF
CAP CER 10000PF 25V X7R 0402; Part Number: TMK105B7103KVHF; Manufacturer: Taiyo Yuden; Tolerance: ±10%; Value: 10000pF; Applications: Automotive; Capacitance: 10000pF; ComponentLink1Description: Datasheet; ComponentLink1URL: https://ds.yuden.co.jp/TYCOMPAS/ut/detail?pn=TMK105B7103KVHF  &u=M; ComponentLink2Description: DigiKey Link; ComponentLink2URL: http://digikey.com/product-detail/en/taiyo-yuden/TMK105B7103KVHF/587-6348-1-ND/9949934; Device Package: 0402 (1005 Metric); LastUpdated: 9/2/2020 1:02:24 AM; Lifecycle Status: Active; Minimum Order: 1; Mounting Type: Surface Mount, MLCC; Operating Temperature: -55°C ~ 125°C; Package / Case: 0402 (1005 Metric); Packaging: TapeAndReel; PartId: 1903; Part Status: Active; Price: 0.01; Ratings: AEC-Q200; Series: M; Size / Dimension: 0.039" L x 0.020" W (1.00mm x 0.50mm); Supplier 1: DigiKey; Supplier Part Number 1: 587-6348-1-ND; Temperature Coefficient: X7R; Thickness (Max): 0.022" (0.55mm); Voltage - Rated: 25V
footprint CAP 0402_1005
pins: 1, 2

## TMK105B7103MVHF
designator C?, comment 10000pF
CAP CER 10000PF 25V X7R 0402; Part Number: TMK105B7103MVHF; Manufacturer: Taiyo Yuden; Tolerance: ±20%; Value: 10000pF; Applications: Automotive, SMPS Filtering; Capacitance: 10000pF; ComponentLink1Description: Datasheet; ComponentLink1URL: https://ds.yuden.co.jp/TYCOMPAS/ut/detail?pn=TMK105B7103MVHF &u=M; ComponentLink2Description: DigiKey Link; ComponentLink2URL: http://digikey.com/product-detail/en/taiyo-yuden/TMK105B7103MVHF/587-5475-1-ND/7067151; Device Package: 0402 (1005 Metric); LastUpdated: 9/2/2020 1:02:24 AM; Lifecycle Status: Active; Minimum Order: 1; Mounting Type: Surface Mount, MLCC; Operating Temperature: -55°C ~ 125°C; Package / Case: 0402 (1005 Metric); Packaging: CutTape; PartId: 2026; Part Status: Active; Price: 0.10; Ratings: AEC-Q200; Series: M; Size / Dimension: 0.039" L x 0.020" W (1.00mm x 0.50mm); Supplier 1: DigiKey; Supplier Part Number 1: 587-5475-1-ND; Temperature Coefficient: X7R; Thickness (Max): 0.022" (0.55mm); Voltage - Rated: 25V
footprint CAP 0402_1005
pins: 1, 2

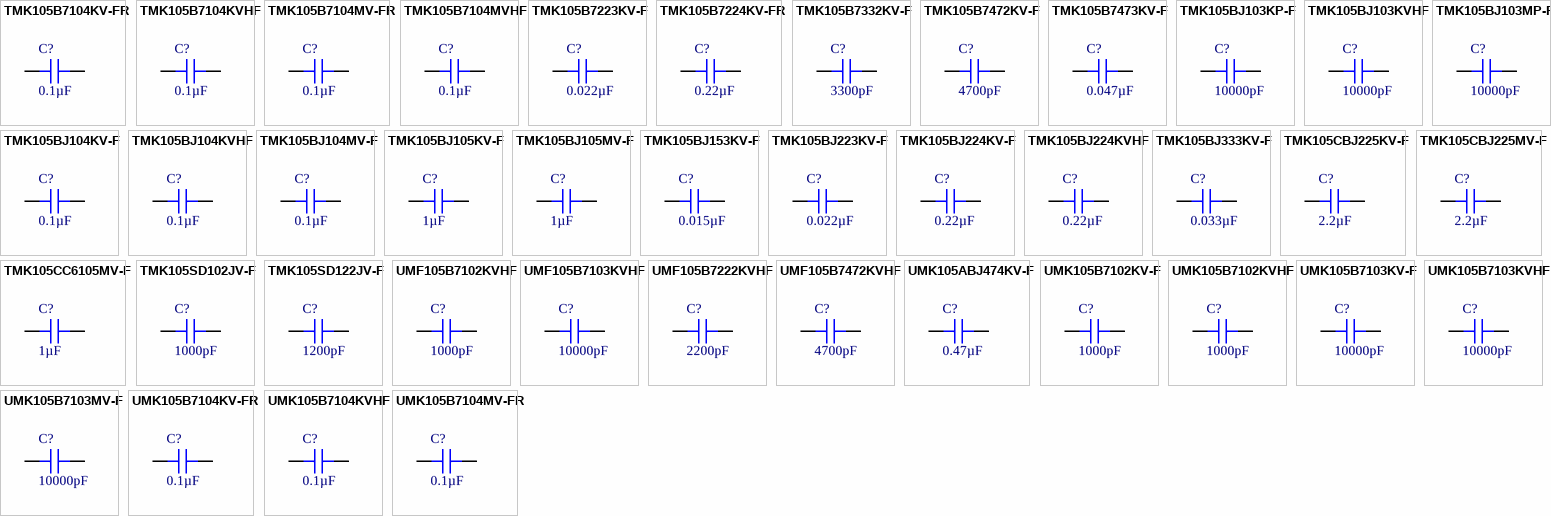
[diagram p106: symbols TMK105B7104KV-FR to UMK105B7104MV-FR]

## TMK105B7104KV-FR
designator C?, comment 0.1µF
CAP CER 0.1UF 25V X7R 0402; Part Number: TMK105B7104KV-FR; Manufacturer: Taiyo Yuden; Tolerance: ±10%; Value: 0.1µF; Applications: SMPS Filtering; Capacitance: 0.1µF; ComponentLink1Description: Datasheet; ComponentLink1URL: https://ds.yuden.co.jp/TYCOMPAS/ut/detail?pn=TMK105B7104KV-FR &u=M; ComponentLink2Description: DigiKey Link; ComponentLink2URL: http://digikey.com/product-detail/en/taiyo-yuden/TMK105B7104KV-FR/587-5476-1-ND/7067152; Device Package: 0402 (1005 Metric); LastUpdated: 9/2/2020 1:02:17 AM; Lifecycle Status: Active; Minimum Order: 1; Mounting Type: Surface Mount, MLCC; Operating Temperature: -55°C ~ 125°C; Package / Case: 0402 (1005 Metric); Packaging: TapeAndReel; PartId: 5133; Part Status: Active; Price: 0.01; Series: M; Size / Dimension: 0.039" L x 0.020" W (1.00mm x 0.50mm); Supplier 1: DigiKey; Supplier Part Number 1: 587-5476-1-ND; Temperature Coefficient: X7R; Thickness (Max): 0.022" (0.55mm); Voltage - Rated: 25V
footprint CAP 0402_1005
pins: 1, 2

## TMK105B7104KVHF
designator C?, comment 0.1µF
CAP CER 0.1UF 25V X7R 0402; Part Number: TMK105B7104KVHF; Manufacturer: Taiyo Yuden; Tolerance: ±10%; Value: 0.1µF; Applications: Automotive; Capacitance: 0.1µF; ComponentLink1Description: Datasheet; ComponentLink1URL: https://ds.yuden.co.jp/TYCOMPAS/ut/detail?pn=TMK105B7104KVHF &u=M; ComponentLink2Description: DigiKey Link; ComponentLink2URL: http://digikey.com/product-detail/en/taiyo-yuden/TMK105B7104KVHF/587-3773-1-ND/4811243; Device Package: 0402 (1005 Metric); LastUpdated: 9/2/2020 1:02:21 AM; Lifecycle Status: Active; Minimum Order: 1; Mounting Type: Surface Mount, MLCC; Operating Temperature: -55°C ~ 125°C; Package / Case: 0402 (1005 Metric); Packaging: TapeAndReel; PartId: 3136; Part Status: Active; Price: 0.01; Ratings: AEC-Q200; Series: M; Size / Dimension: 0.039" L x 0.020" W (1.00mm x 0.50mm); Supplier 1: DigiKey; Supplier Part Number 1: 587-3773-1-ND; Temperature Coefficient: X7R; Thickness (Max): 0.022" (0.55mm); Voltage - Rated: 25V
footprint CAP 0402_1005
pins: 1, 2

## TMK105B7104MV-FR
designator C?, comment 0.1µF
CAP CER 0.1UF 25V X7R 0402; Part Number: TMK105B7104MV-FR; Manufacturer: Taiyo Yuden; Tolerance: ±20%; Value: 0.1µF; Applications: SMPS Filtering; Capacitance: 0.1µF; ComponentLink1Description: Datasheet; ComponentLink1URL: https://ds.yuden.co.jp/TYCOMPAS/ut/detail?pn=TMK105B7104MV-FR &u=M; ComponentLink2Description: DigiKey Link; ComponentLink2URL: http://digikey.com/product-detail/en/taiyo-yuden/TMK105B7104MV-FR/587-6349-1-ND/9949935; Device Package: 0402 (1005 Metric); LastUpdated: 9/2/2020 1:02:06 AM; Lifecycle Status: Active; Minimum Order: 1; Mounting Type: Surface Mount, MLCC; Operating Temperature: -55°C ~ 125°C; Package / Case: 0402 (1005 Metric); Packaging: TapeAndReel; PartId: 10106; Part Status: Active; Price: 0.01; Series: M; Size / Dimension: 0.039" L x 0.020" W (1.00mm x 0.50mm); Supplier 1: DigiKey; Supplier Part Number 1: 587-6349-1-ND; Temperature Coefficient: X7R; Thickness (Max): 0.026" (0.65mm); Voltage - Rated: 25V
footprint CAP 0402_1005
pins: 1, 2

## TMK105B7104MVHF
designator C?, comment 0.1µF
CAP CER 0.1UF 25V X7R 0402; Part Number: TMK105B7104MVHF; Manufacturer: Taiyo Yuden; Tolerance: ±20%; Value: 0.1µF; Applications: Automotive; Capacitance: 0.1µF; ComponentLink1Description: Datasheet; ComponentLink1URL: https://ds.yuden.co.jp/TYCOMPAS/ut/detail?pn=TMK105B7104MVHF &u=M; ComponentLink2Description: DigiKey Link; ComponentLink2URL: http://digikey.com/product-detail/en/taiyo-yuden/TMK105B7104MVHF/587-6350-1-ND/9949936; Device Package: 0402 (1005 Metric); LastUpdated: 9/2/2020 1:02:18 AM; Lifecycle Status: Active; Minimum Order: 1; Mounting Type: Surface Mount, MLCC; Operating Temperature: -55°C ~ 125°C; Package / Case: 0402 (1005 Metric); Packaging: TapeAndReel; PartId: 4392; Part Status: Active; Price: 0.01; Ratings: AEC-Q200; Series: M; Size / Dimension: 0.039" L x 0.020" W (1.00mm x 0.50mm); Supplier 1: DigiKey; Supplier Part Number 1: 587-6350-1-ND; Temperature Coefficient: X7R; Thickness (Max): 0.022" (0.55mm); Voltage - Rated: 25V
footprint CAP 0402_1005
pins: 1, 2

## TMK105B7223KV-F
designator C?, comment 0.022µF
CAP CER 0.022UF 25V X7R 0402; Part Number: TMK105B7223KV-F; Manufacturer: Taiyo Yuden; Tolerance: ±10%; Value: 0.022µF; Applications: General Purpose; Capacitance: 0.022µF; ComponentLink1Description: Datasheet; ComponentLink1URL: https://ds.yuden.co.jp/TYCOMPAS/ut/detail?pn=TMK105B7223KV-F  &u=M; ComponentLink2Description: DigiKey Link; ComponentLink2URL: http://digikey.com/product-detail/en/taiyo-yuden/TMK105B7223KV-F/587-2239-1-ND/2002937; Device Package: 0402 (1005 Metric); LastUpdated: 9/2/2020 1:02:01 AM; Lifecycle Status: Active; Minimum Order: 1; Mounting Type: Surface Mount, MLCC; Operating Temperature: -55°C ~ 125°C; Package / Case: 0402 (1005 Metric); Packaging: CutTape; PartId: 11781; Part Status: Active; Price: 0.10; Series: M; Size / Dimension: 0.039" L x 0.020" W (1.00mm x 0.50mm); Supplier 1: DigiKey; Supplier Part Number 1: 587-2239-1-ND; Temperature Coefficient: X7R; Thickness (Max): 0.022" (0.55mm); Voltage - Rated: 25V
footprint CAP 0402_1005
pins: 1, 2

## TMK105B7224KV-FR
designator C?, comment 0.22µF
CAP CER 0.22UF 25V X7R 0402; Part Number: TMK105B7224KV-FR; Manufacturer: Taiyo Yuden; Tolerance: ±10%; Value: 0.22µF; Applications: SMPS Filtering; Capacitance: 0.22µF; ComponentLink1Description: Datasheet; ComponentLink1URL: https://ds.yuden.co.jp/TYCOMPAS/ut/detail?pn=TMK105B7224KV-FR &u=M; ComponentLink2Description: DigiKey Link; ComponentLink2URL: http://digikey.com/product-detail/en/taiyo-yuden/TMK105B7224KV-FR/587-6021-1-ND/8040684; Device Package: 0402 (1005 Metric); LastUpdated: 9/2/2020 1:02:06 AM; Lifecycle Status: Active; Minimum Order: 1; Mounting Type: Surface Mount, MLCC; Operating Temperature: -55°C ~ 125°C; Package / Case: 0402 (1005 Metric); Packaging: TapeAndReel; PartId: 9786; Part Status: Active; Price: 0.03; Series: M; Size / Dimension: 0.039" L x 0.020" W (1.00mm x 0.50mm); Supplier 1: DigiKey; Supplier Part Number 1: 587-6021-1-ND; Temperature Coefficient: X7R; Thickness (Max): 0.026" (0.65mm); Voltage - Rated: 25V
footprint CAP 0402_1005
pins: 1, 2

## TMK105B7332KV-F
designator C?, comment 3300pF
CAP CER 3300PF 25V X7R 0402; Part Number: TMK105B7332KV-F; Manufacturer: Taiyo Yuden; Tolerance: ±10%; Value: 3300pF; Applications: General Purpose; Capacitance: 3300pF; ComponentLink1Description: Datasheet; ComponentLink1URL: https://ds.yuden.co.jp/TYCOMPAS/ut/detail?pn=TMK105B7332KV-F  &u=M; ComponentLink2Description: DigiKey Link; ComponentLink2URL: http://digikey.com/product-detail/en/taiyo-yuden/TMK105B7332KV-F/587-5592-1-ND/7067267; Device Package: 0402 (1005 Metric); LastUpdated: 9/2/2020 1:02:06 AM; Lifecycle Status: Active; Minimum Order: 1; Mounting Type: Surface Mount, MLCC; Operating Temperature: -55°C ~ 125°C; Package / Case: 0402 (1005 Metric); Packaging: TapeAndReel; PartId: 9972; Part Status: Active; Price: 0.01; Series: M; Size / Dimension: 0.039" L x 0.020" W (1.00mm x 0.50mm); Supplier 1: DigiKey; Supplier Part Number 1: 587-5592-1-ND; Temperature Coefficient: X7R; Thickness (Max): 0.022" (0.55mm); Voltage - Rated: 25V
footprint CAP 0402_1005
pins: 1, 2

## TMK105B7472KV-F
designator C?, comment 4700pF
CAP CER 4700PF 25V X7R 0402; Part Number: TMK105B7472KV-F; Manufacturer: Taiyo Yuden; Tolerance: ±10%; Value: 4700pF; Applications: General Purpose; Capacitance: 4700pF; ComponentLink1Description: Datasheet; ComponentLink1URL: https://ds.yuden.co.jp/TYCOMPAS/ut/detail?pn=TMK105B7472KV-F  &u=M; ComponentLink2Description: DigiKey Link; ComponentLink2URL: http://digikey.com/product-detail/en/taiyo-yuden/TMK105B7472KV-F/587-1222-1-ND/930999; Device Package: 0402 (1005 Metric); LastUpdated: 9/2/2020 1:02:02 AM; Lifecycle Status: Active; Minimum Order: 1; Mounting Type: Surface Mount, MLCC; Operating Temperature: -55°C ~ 125°C; Package / Case: 0402 (1005 Metric); Packaging: CutTape; PartId: 11667; Part Status: Active; Price: 0.10; Series: M; Size / Dimension: 0.039" L x 0.020" W (1.00mm x 0.50mm); Supplier 1: DigiKey; Supplier Part Number 1: 587-1222-1-ND; Temperature Coefficient: X7R; Thickness (Max): 0.022" (0.55mm); Voltage - Rated: 25V
footprint CAP 0402_1005
pins: 1, 2

## TMK105B7473KV-F
designator C?, comment 0.047µF
CAP CER 0.047UF 25V X7R 0402; Part Number: TMK105B7473KV-F; Manufacturer: Taiyo Yuden; Tolerance: ±10%; Value: 0.047µF; Applications: General Purpose; Capacitance: 0.047µF; ComponentLink1Description: Datasheet; ComponentLink1URL: https://ds.yuden.co.jp/TYCOMPAS/ut/detail?pn=TMK105B7473KV-F  &u=M; ComponentLink2Description: DigiKey Link; ComponentLink2URL: http://digikey.com/product-detail/en/taiyo-yuden/TMK105B7473KV-F/587-2240-1-ND/2002938; Device Package: 0402 (1005 Metric); LastUpdated: 9/2/2020 1:02:06 AM; Lifecycle Status: Active; Minimum Order: 1; Mounting Type: Surface Mount, MLCC; Operating Temperature: -55°C ~ 125°C; Package / Case: 0402 (1005 Metric); Packaging: TapeAndReel; PartId: 10114; Part Status: Active; Price: 0.01; Series: M; Size / Dimension: 0.039" L x 0.020" W (1.00mm x 0.50mm); Supplier 1: DigiKey; Supplier Part Number 1: 587-2240-1-ND; Temperature Coefficient: X7R; Thickness (Max): 0.022" (0.55mm); Voltage - Rated: 25V
footprint CAP 0402_1005
pins: 1, 2

## TMK105BJ103KP-F
designator C?, comment 10000pF
CAP CER 10000PF 25V X5R 0402; Part Number: TMK105BJ103KP-F; Manufacturer: Taiyo Yuden; Tolerance: ±10%; Value: 10000pF; Applications: General Purpose; Capacitance: 10000pF; ComponentLink1Description: Datasheet; ComponentLink1URL: https://ds.yuden.co.jp/TYCOMPAS/ut/detail?pn=TMK105BJ103KP-F  &u=M; ComponentLink2Description: DigiKey Link; ComponentLink2URL: http://digikey.com/product-detail/en/taiyo-yuden/TMK105BJ103KP-F/587-5593-1-ND/7067268; Device Package: 0402 (1005 Metric); LastUpdated: 9/2/2020 1:02:25 AM; Lifecycle Status: Active; Minimum Order: 1; Mounting Type: Surface Mount, MLCC; Operating Temperature: -55°C ~ 85°C; Package / Case: 0402 (1005 Metric); Packaging: TapeAndReel; PartId: 1788; Part Status: Active; Price: 0.02; Series: M; Size / Dimension: 0.039" L x 0.020" W (1.00mm x 0.50mm); Supplier 1: DigiKey; Supplier Part Number 1: 587-5593-1-ND; Temperature Coefficient: X5R; Thickness (Max): 0.022" (0.55mm); Voltage - Rated: 25V
footprint CAP 0402_1005
pins: 1, 2

## TMK105BJ103KVHF
designator C?, comment 10000pF
CAP CER 10000PF 25V X5R 0402; Part Number: TMK105BJ103KVHF; Manufacturer: Taiyo Yuden; Tolerance: ±10%; Value: 10000pF; Applications: Automotive; Capacitance: 10000pF; ComponentLink1Description: Datasheet; ComponentLink1URL: https://ds.yuden.co.jp/TYCOMPAS/ut/detail?pn=TMK105BJ103KVHF  &u=M; ComponentLink2Description: DigiKey Link; ComponentLink2URL: http://digikey.com/product-detail/en/taiyo-yuden/TMK105BJ103KVHF/587-6180-1-ND/8884232; Device Package: 0402 (1005 Metric); LastUpdated: 9/2/2020 1:02:12 AM; Lifecycle Status: Active; Minimum Order: 1; Mounting Type: Surface Mount, MLCC; Operating Temperature: -55°C ~ 85°C; Package / Case: 0402 (1005 Metric); Packaging: TapeAndReel; PartId: 7110; Part Status: Active; Price: 0.01; Ratings: AEC-Q200; Series: M; Size / Dimension: 0.039" L x 0.020" W (1.00mm x 0.50mm); Supplier 1: DigiKey; Supplier Part Number 1: 587-6180-1-ND; Temperature Coefficient: X5R; Thickness (Max): 0.022" (0.55mm); Voltage - Rated: 25V
footprint CAP 0402_1005
pins: 1, 2

## TMK105BJ103MP-F
designator C?, comment 10000pF
CAP CER 10000PF 25V X5R 0402; Part Number: TMK105BJ103MP-F; Manufacturer: Taiyo Yuden; Tolerance: ±20%; Value: 10000pF; Applications: SMPS Filtering; Capacitance: 10000pF; ComponentLink1Description: Datasheet; ComponentLink1URL: https://ds.yuden.co.jp/TYCOMPAS/ut/detail?pn=TMK105BJ103MP-F &u=M; ComponentLink2Description: DigiKey Link; ComponentLink2URL: http://digikey.com/product-detail/en/taiyo-yuden/TMK105BJ103MP-F/587-5477-1-ND/7067153; Device Package: 0402 (1005 Metric); LastUpdated: 9/2/2020 1:01:22 AM; Lifecycle Status: Active; Minimum Order: 1; Mounting Type: Surface Mount, MLCC; Operating Temperature: -55°C ~ 85°C; Package / Case: 0402 (1005 Metric); Packaging: TapeAndReel; PartId: 13172; Part Status: Active; Price: 0.02; Series: M; Size / Dimension: 0.039" L x 0.020" W (1.00mm x 0.50mm); Supplier 1: DigiKey; Supplier Part Number 1: 587-5477-1-ND; Temperature Coefficient: X5R; Thickness (Max): 0.013" (0.33mm); Voltage - Rated: 25V
footprint CAP 0402_1005
pins: 1, 2

## TMK105BJ104KV-F
designator C?, comment 0.1µF
CAP CER 0.1UF 25V X5R 0402; Part Number: TMK105BJ104KV-F; Manufacturer: Taiyo Yuden; Tolerance: ±10%; Value: 0.1µF; Applications: General Purpose; Capacitance: 0.1µF; ComponentLink1Description: Datasheet; ComponentLink1URL: https://ds.yuden.co.jp/TYCOMPAS/ut/detail?pn=TMK105BJ104KV-F  &u=M; ComponentLink2Description: DigiKey Link; ComponentLink2URL: http://digikey.com/product-detail/en/taiyo-yuden/TMK105BJ104KV-F/587-1456-1-ND/1004087; Device Package: 0402 (1005 Metric); LastUpdated: 9/2/2020 1:02:15 AM; Lifecycle Status: Active; Minimum Order: 1; Mounting Type: Surface Mount, MLCC; Operating Temperature: -55°C ~ 85°C; Package / Case: 0402 (1005 Metric); Packaging: CutTape; PartId: 6078; Part Status: Active; Price: 0.10; Series: M; Size / Dimension: 0.039" L x 0.020" W (1.00mm x 0.50mm); Supplier 1: DigiKey; Supplier Part Number 1: 587-1456-1-ND; Temperature Coefficient: X5R; Thickness (Max): 0.022" (0.55mm); Voltage - Rated: 25V
footprint CAP 0402_1005
pins: 1, 2

## TMK105BJ104KVHF
designator C?, comment 0.1µF
CAP CER 0.1UF 25V X5R 0402; Part Number: TMK105BJ104KVHF; Manufacturer: Taiyo Yuden; Tolerance: ±10%; Value: 0.1µF; Applications: Automotive; Capacitance: 0.1µF; ComponentLink1Description: Datasheet; ComponentLink1URL: https://ds.yuden.co.jp/TYCOMPAS/ut/detail?pn=TMK105BJ104KVHF &u=M; ComponentLink2Description: DigiKey Link; ComponentLink2URL: http://digikey.com/product-detail/en/taiyo-yuden/TMK105BJ104KVHF/587-3808-1-ND/4811278; Device Package: 0402 (1005 Metric); LastUpdated: 9/2/2020 1:02:22 AM; Lifecycle Status: Active; Minimum Order: 1; Mounting Type: Surface Mount, MLCC; Operating Temperature: -55°C ~ 85°C; Package / Case: 0402 (1005 Metric); Packaging: TapeAndReel; PartId: 2777; Part Status: Active; Price: 0.01; Ratings: AEC-Q200; Series: M; Size / Dimension: 0.039" L x 0.020" W (1.00mm x 0.50mm); Supplier 1: DigiKey; Supplier Part Number 1: 587-3808-1-ND; Temperature Coefficient: X5R; Thickness (Max): 0.022" (0.55mm); Voltage - Rated: 25V
footprint CAP 0402_1005
pins: 1, 2

## TMK105BJ104MV-F
designator C?, comment 0.1µF
CAP CER 0.1UF 25V X5R 0402; Part Number: TMK105BJ104MV-F; Manufacturer: Taiyo Yuden; Tolerance: ±20%; Value: 0.1µF; Applications: SMPS Filtering; Capacitance: 0.1µF; ComponentLink1Description: Datasheet; ComponentLink1URL: https://ds.yuden.co.jp/TYCOMPAS/ut/detail?pn=TMK105BJ104MV-F &u=M; ComponentLink2Description: DigiKey Link; ComponentLink2URL: http://digikey.com/product-detail/en/taiyo-yuden/TMK105BJ104MV-F/587-6351-1-ND/9949937; Device Package: 0402 (1005 Metric); LastUpdated: 9/2/2020 1:02:22 AM; Lifecycle Status: Active; Minimum Order: 1; Mounting Type: Surface Mount, MLCC; Operating Temperature: -55°C ~ 85°C; Package / Case: 0402 (1005 Metric); Packaging: CutTape; PartId: 2768; Part Status: Active; Price: 0.10; Series: M; Size / Dimension: 0.039" L x 0.020" W (1.00mm x 0.50mm); Supplier 1: DigiKey; Supplier Part Number 1: 587-6351-1-ND; Temperature Coefficient: X5R; Thickness (Max): 0.022" (0.55mm); Voltage - Rated: 25V
footprint CAP 0402_1005
pins: 1, 2